# Altium footprint library SOT.PcbLib: 163 footprints (part 1 of 11)
Each footprint in its own frame and in the unit in brackets; x right, y up, seen from the top. Pads: shape width x height; smd on the part's side, far side on the other; paste and mask are expansions set on the pad; w line width, h text height; cw(c..) or ccw(c..) is an arc to the next point about the centre after c.
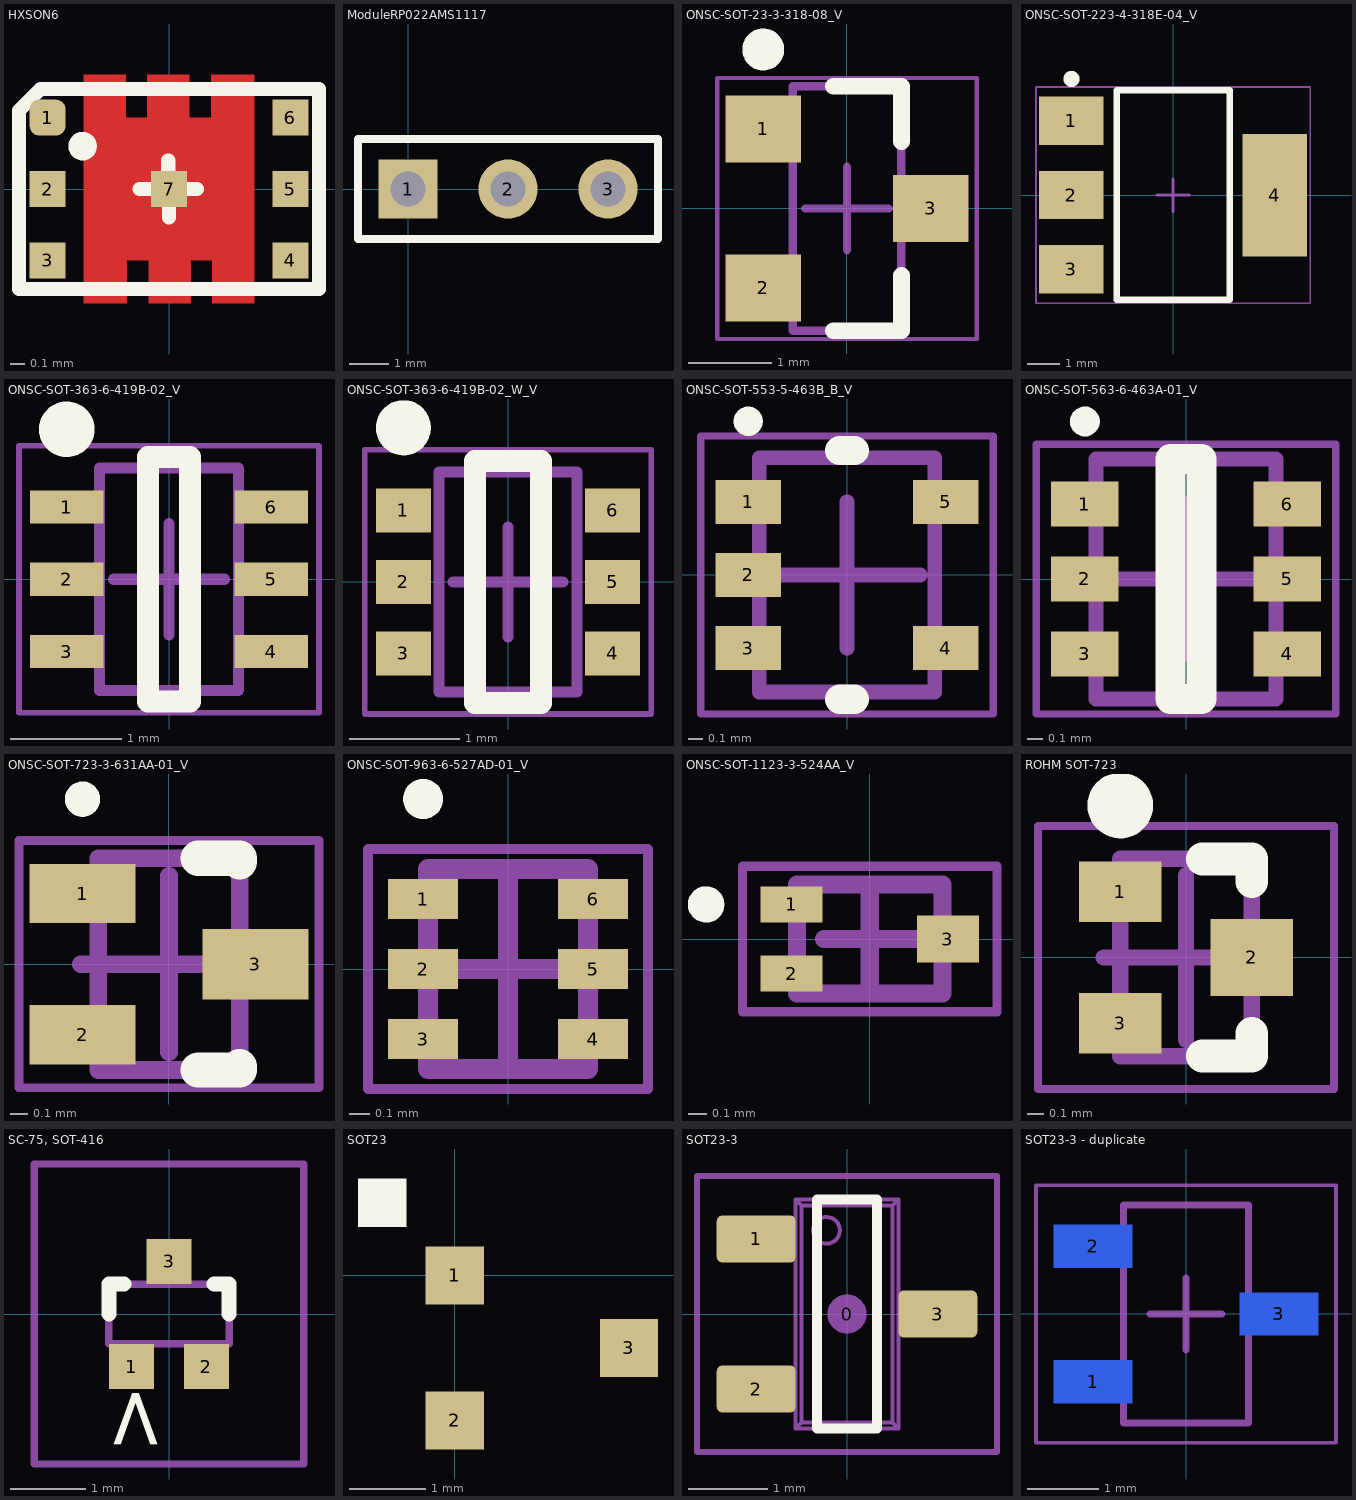
[diagram p0: the footprints below, top view; thin cyan lines are the x and y axes]

## HXSON6 [mm] "SON, 12-Leads, Body 1,10x1,30mm, Pitch 0,50mm, Thermal Pad 1,10x0,34mm, IPC Medium Density"
height 0.35
pads (7):
  rrect50% 0.25x0.25 smd: 1(-0.85,0.5)
  rect 0.25x0.25 smd: 2(-0.85,0) 3(-0.85,-0.5) 4(0.85,-0.5) 5(0.85,0) 6(0.85,0.5) 7(0,0)
Top Layer:
  rectangle: -0.6,-0.5 0.6,0.5
  rectangle: -0.6,0.4 -0.3,0.8
  rectangle: 0.295,0.4 0.6,0.8
  rectangle: -0.155,0.4 0.145,0.8
  region: 0.155,-0.4 -0.145,-0.4 -0.145,-0.8 0.155,-0.8
  region: -0.295,-0.4 -0.6,-0.4 -0.6,-0.8 -0.295,-0.8
  region: 0.6,-0.4 0.3,-0.4 0.3,-0.8 0.6,-0.8
Top Overlay:
  circle w0.1: c-0.605,0.3 r0.05
  lines w0.1: -0.205,0 0.195,0 ; -0.005,0.2 0,-0.2 ; -1.05,-0.7 -1.05,0.55 -0.9,0.7 1.05,0.7 1.05,-0.7 -1.05,-0.7

## ModuleRP022AMS1117 [mm] "Модуль RP022. Преобразователь с 5 Вольт в 3.3 Вольта. AMS1117-3.3 LDO 800 мA"
pads (3):
  rect 1.5x1.5 hole 0.9: 1(0,0)
  round 1.5 hole 0.9: 2(2.54,0) 3(5.08,0)
Top Overlay:
  lines w0.2: -1.27,-1.27 6.35,-1.27 6.35,1.27 -1.27,1.27 -1.27,-1.27
3D body "User Library-SOT223.STEP": height 13.42, standoff -0.42, extent -1.27,-0.403 6.35,2.54

## ONSC-SOT-23-3-318-08_V [mm] "SOT23, 3-Leads, Body 2.92x1.3mm, Pitch 0.95mm"
height 1.11
pads (3):
  rect 0.9x0.8 smd: 1(-1,0.95) 2(-1,-0.95) 3(1,0)
Top Overlay:
  circle w0.25: c-1,1.9 r0.125
  lines w0.2: -0.165,-1.46 0.65,-1.46 0.65,-0.8 ; -0.165,1.46 0.65,1.46 0.65,0.8
Mechanical 13:
  lines w0.1: -0.65,-1.46 0.65,-1.46 0.65,1.46 -0.65,1.46 -0.65,-1.46
Mechanical 15:
  lines w0.05: -1.55,-1.56 1.55,-1.56 1.55,1.56 -1.55,1.56 -1.55,-1.56
  lines w0.1: -0.5,0 0.5,0 ; 0,-0.5 0,0.5
3D body: height 1.11, standoff 0.01, extent -0.65,-1.46 0.65,1.46

## ONSC-SOT-223-4-318E-04_V [mm] "SOT223, 4-Leads, Body 6.5x3.5mm, Pitch 2.3mm"
height 1.75
pads (4):
  rect 2x1.5 smd: 1(-3.15,2.3) 2(-3.15,0) 3(-3.15,-2.3)
  rect 2x3.8 smd: 4(3.15,0)
Top Overlay:
  circle w0.25: c-3.15,3.6 r0.125
  lines w0.2: -1.75,-3.25 1.75,-3.25 1.75,3.25 -1.75,3.25 -1.75,-3.2
Mechanical 13:
  lines w0.1: -1.75,-3.25 1.75,-3.25 1.75,3.25 -1.75,3.25 -1.75,-3.25
Mechanical 15:
  lines w0.05: -4.25,-3.35 -4.25,3.35 4.25,3.35 4.25,-3.35 -4.25,-3.35
  lines w0.1: -0.5,0 0.5,0 ; 0,-0.5 0,0.5
3D body: height 1.75, standoff 0.02, extent -1.75,-3.25 1.75,3.25

## ONSC-SOT-363-6-419B-02_V [mm] "SOT23, 6-Leads, Body 2x1.25mm, Pitch 0.65mm"
height 1.1
pads (6):
  rect 0.66x0.3 smd: 1(-0.92,0.65) 2(-0.92,0) 3(-0.92,-0.65) 4(0.92,-0.65) 5(0.92,0) 6(0.92,0.65)
Top Overlay:
  circle w0.25: c-0.92,1.35 r0.125
  lines w0.2: -0.19,-1.1 0.19,-1.1 0.19,1.1 -0.19,1.1 -0.19,-1.1
Mechanical 13:
  lines w0.1: -0.625,-1 -0.625,1 0.625,1 0.625,-1 -0.625,-1
Mechanical 15:
  lines w0.05: -1.35,-1.2 -1.35,1.2 1.35,1.2 1.35,-1.2 -1.35,-1.2
  lines w0.1: -0.5,0 0.5,0 ; 0,-0.5 0,0.5
3D body: height 1.1, standoff 0, extent -0.625,-1 0.625,1

## ONSC-SOT-363-6-419B-02_W_V [mm] "SOT23, 6-Leads, Body 2x1.25mm, Pitch 0.65mm"
height 1.1
pads (6):
  rect 0.5x0.4 smd: 1(-0.95,0.65) 2(-0.95,0) 3(-0.95,-0.65) 4(0.95,-0.65) 5(0.95,0) 6(0.95,0.65)
Top Overlay:
  circle w0.25: c-0.95,1.4 r0.125
  lines w0.2: -0.3,-1.1 -0.3,1.1 0.3,1.1 0.3,-1.1 -0.3,-1.1
Mechanical 13:
  lines w0.1: -0.625,-1 0.625,-1 0.625,1 -0.625,1 -0.625,-1
Mechanical 15:
  lines w0.05: -1.3,-1.2 1.3,-1.2 1.3,1.2 -1.3,1.2 -1.3,-1.2
  lines w0.1: -0.5,0 0.5,0 ; 0,-0.5 0,0.5
3D body: height 1.1, standoff 0, extent -0.625,-1 0.625,1

## ONSC-SOT-553-5-463B_B_V [mm] "SOT23, 5-Leads, Body 1.6x1.2mm, Pitch 0.5mm"
height 0.6
pads (5):
  rect 0.45x0.3 smd: 1(-0.675,0.5) 2(-0.675,0) 3(-0.675,-0.5) 4(0.675,-0.5) 5(0.675,0.5)
Top Overlay:
  circle w0.1: c-0.675,1.05 r0.05
  lines w0.2: -0.05,-0.85 0.05,-0.85 ; -0.05,0.85 0.05,0.85
Mechanical 13:
  lines w0.1: -0.6,-0.8 0.6,-0.8 0.6,0.8 -0.6,0.8 -0.6,-0.8
Mechanical 15:
  lines w0.05: -1,-0.95 1,-0.95 1,0.95 -1,0.95 -1,-0.95
  lines w0.1: -0.5,0 0.5,0 ; 0,-0.5 0,0.5
3D body: height 0.6, standoff 0, extent -0.6,-0.8 0.6,0.8

## ONSC-SOT-563-6-463A-01_V [mm] "SOT23, 6-Leads, Body 1.6x1.2mm, Pitch 0.5mm"
height 0.6
pads (6):
  rect 0.45x0.3 smd: 1(-0.675,0.5) 2(-0.675,0) 3(-0.675,-0.5) 4(0.675,-0.5) 5(0.675,0) 6(0.675,0.5)
Top Overlay:
  circle w0.1: c-0.675,1.05 r0.05
  lines w0.2: -0.104,-0.8 0.104,-0.8 0.104,0.8 -0.104,0.8 -0.104,-0.8
Mechanical 13:
  lines w0.1: -0.6,-0.8 -0.6,0.8 0.6,0.8 0.6,-0.8 -0.6,-0.8
Mechanical 15:
  lines w0.05: -1,-0.9 -1,0.9 1,0.9 1,-0.9 -1,-0.9
  lines w0.1: -0.5,0 0.5,0 ; 0,-0.5 0,0.5
3D body: height 0.6, standoff 0, extent -0.6,-0.8 0.6,0.8

## ONSC-SOT-723-3-631AA-01_V [mm] "SOT223, 3-Leads, Body 1.2x0.8mm, Pitch 0.4mm"
height 0.55
pads (3):
  rect 0.6x0.335 smd: 1(-0.49,0.4) 2(-0.49,-0.4)
  rect 0.6x0.4 smd: 3(0.49,0)
Top Overlay:
  circle w0.1: c-0.49,0.935 r0.05
  lines w0.2: 0.165,-0.6 0.4,-0.6 0.4,-0.58 ; 0.165,0.6 0.4,0.6 0.4,0.58
Mechanical 13:
  lines w0.1: -0.4,-0.6 0.4,-0.6 0.4,0.6 -0.4,0.6 -0.4,-0.6
Mechanical 15:
  lines w0.05: -0.85,-0.7 0.85,-0.7 0.85,0.7 -0.85,0.7 -0.85,-0.7
  lines w0.1: -0.5,0 0.5,0 ; 0,-0.5 0,0.5
3D body: height 0.55, standoff 0, extent -0.4,-0.6 0.4,0.6

## ONSC-SOT-963-6-527AD-01_V [mm] "SOT23, 6-Leads, Body 1x0.8mm, Pitch 0.35mm"
height 0.4
pads (6):
  rect 0.35x0.2 smd: 1(-0.425,0.35) 2(-0.425,0) 3(-0.425,-0.35) 4(0.425,-0.35) 5(0.425,0) 6(0.425,0.35)
Top Overlay:
  circle w0.1: c-0.425,0.85 r0.05
Mechanical 13:
  lines w0.1: -0.4,-0.5 -0.4,0.5 0.4,0.5 0.4,-0.5 -0.4,-0.5
Mechanical 15:
  lines w0.05: -0.7,-0.6 -0.7,0.6 0.7,0.6 0.7,-0.6 -0.7,-0.6
  lines w0.1: -0.5,0 0.5,0 ; 0,-0.5 0,0.5
3D body: height 0.4, standoff 0, extent -0.4,-0.5 0.4,0.5

## ONSC-SOT-1123-3-524AA_V [mm] "SOT223, 3-Leads, Body 0.8x0.6mm, Pitch 0.38mm"
height 0.4
pads (3):
  rect 0.34x0.2 smd: 1(-0.43,0.19) 2(-0.43,-0.19)
  rect 0.34x0.26 smd: 3(0.43,0)
Top Overlay:
  circle w0.1: c-0.9,0.19 r0.05
Mechanical 13:
  lines w0.1: -0.4,-0.3 -0.4,0.3 0.4,0.3 0.4,-0.3 -0.4,-0.3
Mechanical 15:
  lines w0.05: -0.7,-0.4 -0.7,0.4 0.7,0.4 0.7,-0.4 -0.7,-0.4
  lines w0.1: -0.25,0 0.25,0 ; 0,-0.25 0,0.25
3D body: height 0.4, standoff 0, extent -0.4,-0.3 0.4,0.3

## ROHM SOT-723 [mm] "SOT-723, 3-Leads, Body 0.8x1.20mm, Pitch 0.40mm, IPC Medium Density"
height 0.55
pads (3):
  rect 0.5x0.37 smd: 1(-0.4,0.4) 3(-0.4,-0.4)
  rect 0.5x0.47 smd: 2(0.4,0)
Top Overlay:
  circle w0.2: c-0.4,0.925 r0.1
  lines w0.2: 0.1,-0.6 0.4,-0.6 0.4,-0.463 ; 0.1,0.6 0.4,0.6 0.4,0.463
Mechanical 13:
  lines w0.1: -0.4,-0.6 -0.4,0.6 0.4,0.6 0.4,-0.6 -0.4,-0.6
Mechanical 15:
  lines w0.05: -0.9,-0.8 -0.9,0.8 0.9,0.8 0.9,-0.8 -0.9,-0.8
  lines w0.1: -0.5,0 0.5,0 ; 0,-0.5 0,0.5
3D body "SOT-723.step": height 0.55, standoff 0, extent -0.6,-0.6 0.6,0.6

## SC-75, SOT-416 [mm]
pads (3):
  rect 0.6x0.6 smd: 1(-0.5,-0.7) 2(0.5,-0.7) 3(0,0.7)
Top Overlay:
  lines w0.2: -0.8,0 -0.8,0.4 -0.6,0.4 ; 0.6,0.4 0.8,0.4 0.8,0
  text ">" at -0.1,-1.855 h0.8
Mechanical 13:
  lines w0.1: -0.8,-0.4 0.8,-0.4 0.8,0.4 -0.8,0.4 -0.8,-0.4
Mechanical 15:
  lines w0.1: -1.8,-2 1.8,-2 1.8,2 -1.8,2 -1.8,-2
3D body "SSM3K72CFS,LF.stp": height 1, standoff 0, extent -0.8,-0.94 0.8,0.94

## SOT23 [mil]
height 118.11
pads (3):
  rect 30x30 smd: 1(0,0) 2(0,-75) 3(90,-37.5)
Top Overlay:
  region: -50,25 -25,25 -25,50 -50,50
3D body "SOT-23.step": height 41.34, standoff -1.97, extent -4,-97 94.42,21.11

## SOT23-3 [mm] "SOT23, 3 pin"
height 1.003
pads (4):
  round 0.5 on Mech15: 0(0,0)
  rrect25% 1x0.6 smd: 1(-1.15,0.95) 2(-1.15,-0.95) 3(1.15,0)
Top Overlay:
  lines w0.127: -0.381,-1.45 -0.381,1.45 0.381,1.45 0.381,-1.45 -0.381,-1.45
  text "." at -2.125,0.95 h0.1
Mechanical 13:
  circle w0.05: c-0.26,1.06 r0.169
  lines w0.05: -1.19,-1.19 -1.19,-0.71 ; -1.19,0.71 -1.19,1.19 ; -1.099,-1.19 -1.099,-0.71 ; -1.099,0.71 -1.099,1.19 ; -1.074,-1.19 -1.074,-0.71 ; -1.074,0.71 -1.074,1.19 ; -0.825,-1.19 -0.825,-0.71 ; -0.825,0.71 -0.825,1.19 ; -0.65,-1.19 -1.4,-1.19 -1.4,-0.71 -0.65,-0.71 ; -0.65,0.71 -1.4,0.71 -1.4,1.19 -0.65,1.19 ; 0.65,-0.24 1.4,-0.24 1.4,0.24 0.65,0.24 ; 0.825,-0.24 0.825,0.24 ; 1.074,-0.24 1.074,0.24 ; 1.099,-0.24 1.099,0.24 ; 1.19,-0.24 1.19,0.24 ; -0.65,-1.45 0.65,-1.45 ; -0.65,-1.45 -0.65,1.45 ; -0.65,-1.45 -0.576,-1.376 ; -0.65,1.45 -0.576,1.376 ; -0.65,1.45 0.65,1.45 ; -0.576,-1.376 0.576,-1.376 ; -0.576,-1.376 -0.576,1.376 ; -0.576,1.376 0.576,1.376 ; 0.576,-1.376 0.65,-1.45 ; 0.576,-1.376 0.576,1.376 ; 0.576,1.376 0.65,1.45 ; 0.65,-1.45 0.65,1.45
Mechanical 15:
  lines w0.076: -1.9,-1.75 -1.9,1.75 1.9,1.75 1.9,-1.75 -1.9,-1.75
3D body "SOT23-3.STEP": height 1.29, standoff -0.01, extent -1.4,-1.45 1.4,1.45

## SOT23-3 - duplicate [mm] "SOT95P280X145-3N"
height 1.45
pads (3):
  rect 1.1x0.6 smd far side: 1(-1.3,-0.95) 2(-1.3,0.95) 3(1.3,0)
Bottom Overlay:
  lines w0.2: -0.5,-1.55 -0.5,1.55 0.5,1.55 0.5,-1.55 -0.5,-1.55
  text ">" at -2.6,-0.55 h0.8
Mechanical 14:
  lines w0.1: -0.875,-1.525 0.875,-1.525 0.875,1.525 -0.875,1.525 -0.875,-1.525
Mechanical 16:
  lines w0.05: -2.1,-1.8 2.1,-1.8 2.1,1.8 -2.1,1.8 -2.1,-1.8
  lines w0.1: -0.5,0 0.5,0 ; 0,-0.5 0,0.5
3D body "SOT23-3.step": height 1.45, standoff 0, extent -1.5,-1.525 1.5,1.525